# Altium footprint library DSUB15-F180.PcbLib: 1 footprints
Each footprint in its own frame and in the unit in brackets; x right, y up, seen from the top. Pads: shape width x height; smd on the part's side, far side on the other; paste and mask are expansions set on the pad; w line width, h text height; cw(c..) or ccw(c..) is an arc to the next point about the centre after c.
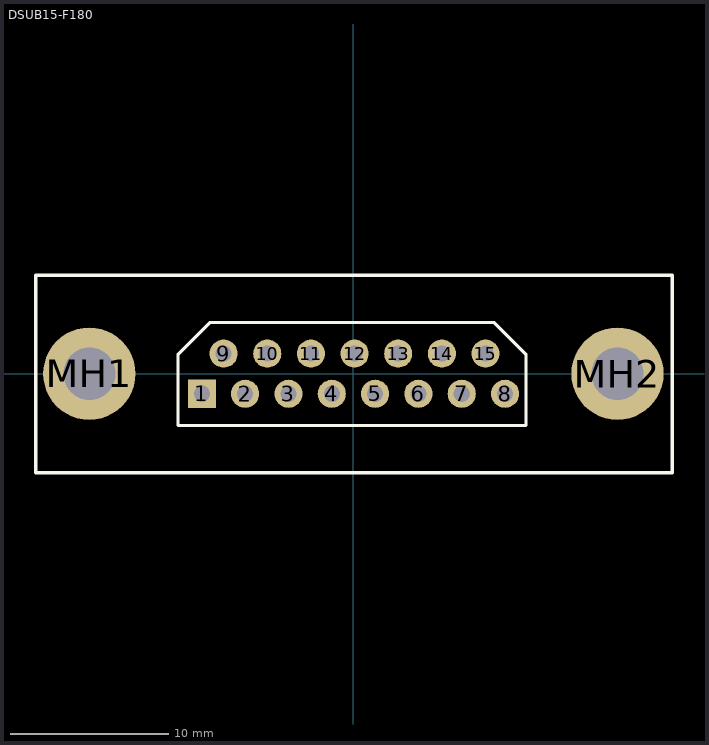
[diagram p0: the footprint, top view; thin cyan lines are the x and y axes]

## DSUB15-F180 [mil]
pads (17):
  rect 70x70 hole 40: 1(-377.5,-50)
  round 70 hole 40: 2(-269.63,-50) 3(-161.75,-50) 4(-53.88,-50) 5(54,-50) 6(161.87,-50) 7(269.74,-50) 8(377.62,-50) 9(-323.17,50) 10(-214.51,50) 11(-105.85,50) 12(2.81,50) 13(111.48,50) 14(220.14,50) 15(328.8,50)
  round 230 hole 130: MH1(-657.5,0) MH2(657.5,0)
Top Overlay:
  lines w8: -790.89,-246.85 -790.89,245.28 793.76,245.28 793.76,-246.85 -790.89,-246.85 ; -436.56,-128.74 -436.56,48.42 -357.81,127.17 350.85,127.17 429.59,48.42 429.59,-128.74 -436.56,-128.74